# Altium integrated library IRF840.IntLib: 1 symbol
Pins are listed as number, name and electrical type; pins without a type are passive.

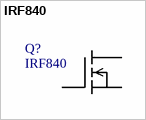
[diagram p0: symbol IRF840]

## IRF840
designator Q?
Trans MOSFET N-CH 500V 8A 3-Pin(3+Tab) TO-220AB; MF: Vishay; Availability: Bad; Package: TO-220 Vishay; Price: 3.90 USD; MP: IRF840; Value: *
footprint TO220
pins: 1 G, 2 D, 3 S